# Altium footprint library PcbLib1.PcbLib: 21 footprints (part 2 of 2)
Each footprint in its own frame and in the unit in brackets; x right, y up, seen from the top. Pads: shape width x height; smd on the part's side, far side on the other; paste and mask are expansions set on the pad; w line width, h text height; cw(c..) or ccw(c..) is an arc to the next point about the centre after c.
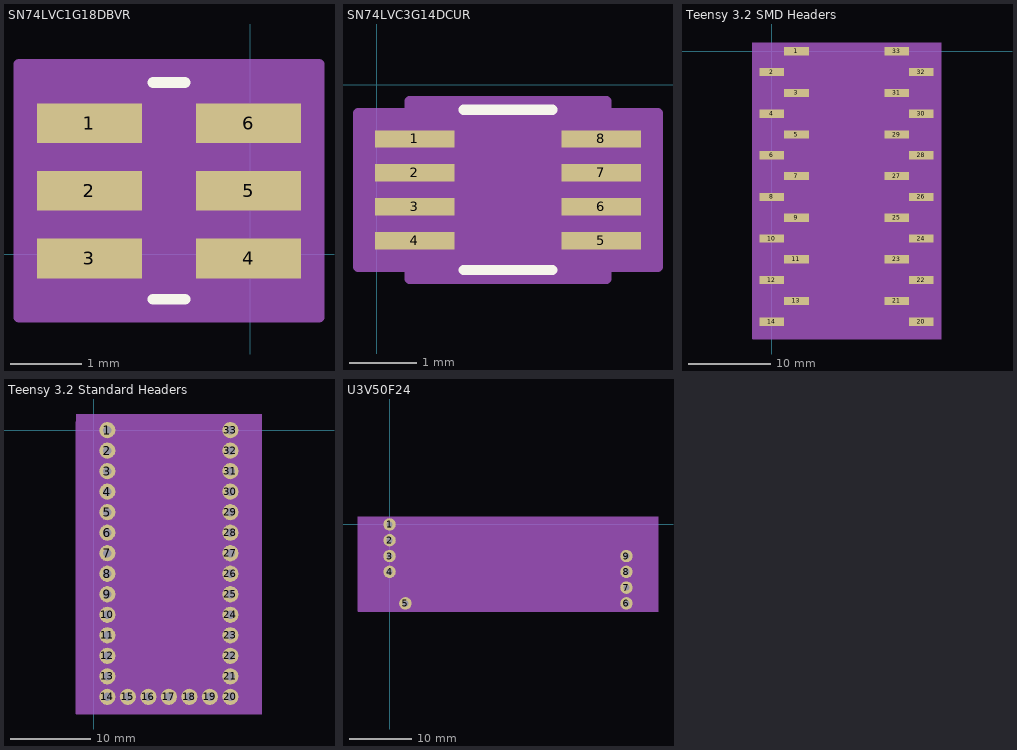
[diagram p1: the footprints below, top view; thin cyan lines are the x and y axes]

## SN74LVC1G18DBVR [mil]
height 57.09
pads (6):
  rect 58x22 smd: 1(-89,72.4) 2(-89,35) 3(-89,-2.4) 4(-1,-2.4) 5(-1,35) 6(-1,72.4)
Top Overlay:
  lines w6: -53.91,-25 -36.09,-25 ; -53.91,95 -36.09,95
Mechanical 13:
  lines w0: -57,95 ccw(c-45,95) -33,95
Mechanical 15:
  region: 38,-35 -128,-35 -128,105 38,105
  lines w6: -128,-35 -128,105 38,105 38,-35 -128,-35
3D body: height 10, standoff 0, extent -45,35 -35,45

## SN74LVC3G14DCUR [mil] "IC INVERTER TRPL S-T US8"
height 35.43
pads (8):
  rect 46x10 smd: 1(22,-31.47) 2(22,-51.16) 3(22,-70.84) 4(22,-90.53) 5(130,-90.53) 6(130,-70.84) 7(130,-51.16) 8(130,-31.47)
Top Overlay:
  lines w6: 50.32,-107.5 101.68,-107.5 ; 50.32,-14.5 101.68,-14.5
Mechanical 13:
  lines w0: 64,-19.5 ccw(c76,-19.5) 88,-19.5
Mechanical 15:
  region: 19,-105.53 -11,-105.53 -11,-16.47 19,-16.47 19,-9.5 133,-9.5 133,-16.47 163,-16.47 163,-105.53 133,-105.53 133,-112.5 19,-112.5
  lines w6: -11,-105.53 19,-105.53 19,-112.5 133,-112.5 133,-105.53 163,-105.53 163,-16.47 133,-16.47 133,-9.5 19,-9.5 19,-16.47 -11,-16.47 -11,-105.53
3D body: height 10, standoff 0, extent 76,-61 86,-51

## Teensy 3.2 SMD Headers [mm]
height 6.855
pads (28):
  rect 3x1 smd: 1(3,0) 2(0,-2.54) 3(3,-5.08) 4(0,-7.62) 5(3,-10.16) 6(0,-12.7) 7(3,-15.24) 8(0,-17.78) 9(3,-20.32) 10(0,-22.86) 11(3,-25.4) 12(0,-27.94) 13(3,-30.48) 14(0,-33.02) 20(18.24,-33.02) 21(15.24,-30.48) 22(18.24,-27.94) 23(15.24,-25.4) 24(18.24,-22.86) 25(15.24,-20.32) 26(18.24,-17.78) 27(15.24,-15.24) 28(18.24,-12.7) 29(15.24,-10.16) 30(18.24,-7.62) 31(15.24,-5.08) 32(18.24,-2.54) 33(15.24,0)
Mechanical 15:
  region: 20.65,-35.128 -2.337,-35.128 -2.337,1.067 20.65,1.067
  lines w0.152: -2.337,-35.128 20.676,-35.128 20.676,1.067 -2.337,1.067 -2.337,-35.128
3D body: height 0.25, standoff 0, extent -1.092,-34.493 19.355,1.156

## Teensy 3.2 Standard Headers [mm]
height 6.895
pads (33):
  round 2 hole 1.1: 1(1.7,0.025) 2(1.7,-2.515) 3(1.7,-5.055) 4(1.7,-7.595) 5(1.7,-10.135) 6(1.7,-12.675) 7(1.7,-15.215) 8(1.7,-17.755) 9(1.7,-20.295) 10(1.7,-22.836) 11(1.7,-25.376) 12(1.7,-27.916) 13(1.7,-30.456) 14(1.7,-32.996) 15(4.24,-32.996) 16(6.78,-32.996) 17(9.32,-32.996) 18(11.86,-32.996) 19(14.4,-32.996) 20(16.94,-32.996) 21(16.94,-30.456) 22(16.94,-27.916) 23(16.94,-25.376) 24(16.94,-22.836) 25(16.94,-20.296) 26(16.94,-17.756) 27(16.94,-15.216) 28(16.94,-12.676) 29(16.94,-10.135) 30(16.94,-7.595) 31(16.94,-5.055) 32(16.94,-2.515) 33(16.94,0.025)
Mechanical 15:
  region: 20.825,-35.128 -2.162,-35.128 -2.162,2.032 20.825,2.032
  lines w0.152: -2.162,-35.128 20.851,-35.128 20.851,1.067 -2.162,1.067 -2.162,-35.128
3D body: height 0.25, standoff 0, extent -0.917,-34.493 19.53,1.651

## U3V50F24 [mm]
pads (9):
  round 2 hole 1: 1(0,0) 2(0,-2.54) 3(0,-5.08) 4(0,-7.62) 5(2.54,-12.7) 6(38.1,-12.7) 7(38.1,-10.16) 8(38.1,-7.62) 9(38.1,-5.08)
Mechanical 15:
  region: 43.18,-13.97 -5.08,-13.97 -5.08,1.27 43.18,1.27
  lines w0.152: -5.08,-13.995 -5.08,1.27 43.18,1.27 43.18,-13.995 -5.08,-13.995
3D body: height 0.25, standoff 0, extent -4.724,-13.995 42.697,1.27